# Altium schematic symbol library Conn,Nano-Fit,Rcpt,8Pos.Schlib: 1 symbol
Pins are listed as number, name and electrical type; pins without a type are passive.

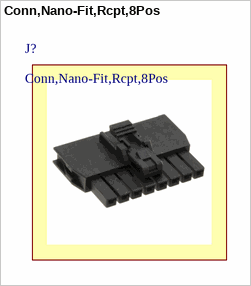
[diagram p0: symbol Conn,Nano-Fit,Rcpt,8Pos]

## Conn,Nano-Fit,Rcpt,8Pos
designator J?  (mechanical)
8 Rectangular Connectors - Housings Receptacle Black 0.098" (2.50mm)